# Altium footprint library CFAG12864K.PcbLib: 1 footprints
Each footprint in its own frame and in the unit in brackets; x right, y up, seen from the top. Pads: shape width x height; smd on the part's side, far side on the other; paste and mask are expansions set on the pad; w line width, h text height; cw(c..) or ccw(c..) is an arc to the next point about the centre after c.
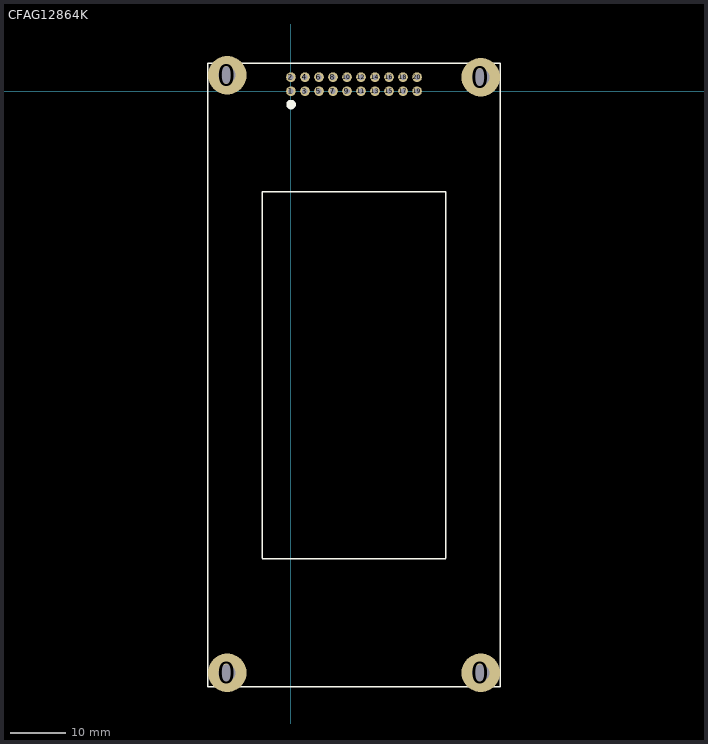
[diagram p0: the footprint, top view; thin cyan lines are the x and y axes]

## CFAG12864K [mm] "CrystalFontz 128x64 graphic LCD"
pads (24):
  round 7 hole 3.1: 0(-11.57,-105.46) 0(-11.57,2.921) 0(34.43,-105.46) 0(34.43,2.54)
  round 1.75 hole 1: 1(0,0) 2(0,2.54) 3(2.54,0) 4(2.54,2.54) 5(5.08,0) 6(5.08,2.54) 7(7.62,0) 8(7.62,2.54) 9(10.16,0) 10(10.16,2.54) 11(12.7,0) 12(12.7,2.54) 13(15.24,0) 14(15.24,2.54) 15(17.78,0) 16(17.78,2.54) 17(20.32,0) 18(20.32,2.54) 19(22.86,0) 20(22.86,2.54)
Top Overlay:
  circle w1: c0.022,-2.413 r0.359
  lines w0.254: -5.19,-84.748 28.05,-84.748 ; -5.19,-84.72 -5.19,-18.2 28.05,-18.2 28.05,-84.72 ; -15.07,-107.96 37.93,-107.96 37.93,5.04 -15.07,5.04 -15.07,-107.96